# Altium schematic symbol library MMT_Capacitors.SchLib: 58 symbols
Pins are listed as number, name and electrical type; pins without a type are passive.

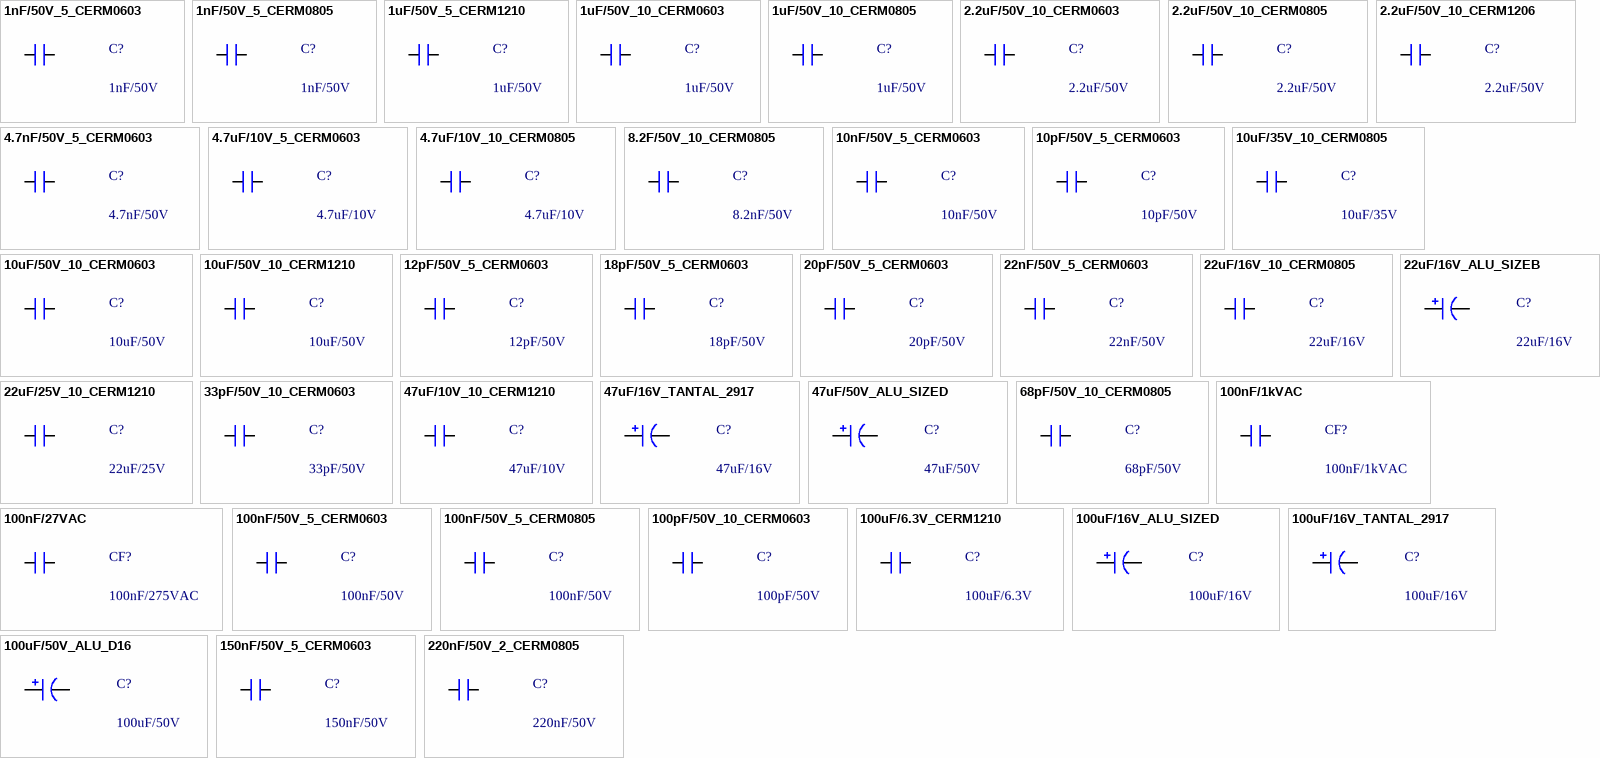
[diagram p0: symbols 1nF/50V_5_CERM0603 to 220nF/50V_2_CERM0805]

## 1nF/50V_5_CERM0603
designator C?, comment 1nF/50V
Multilayer Ceramic Capacitors MLCC - SMD/SMT 10000pF 50V 5% 0603 Case Size; Part Number: C0603C102J5GACTU; Manufacturer: KEMET; VN Price: 400; Value: 1nF; Ex Price: 0.1; VN Supplier: https://thegioiic.com/products/tu-1nf-50v-0603; Tolerance: 5%; Voltage/Wattage: 50V; Package: 0603 (1608 metric); Ex Supplier: https://www.mouser.vn/ProductDetail/Murata-Electronics/GRM1885C1H102JA01D?qs=sGAEpiMZZMs0AnBnWHyRQCld5UqfCmT595b3DkpttL4%3D
footprint CAP-SM-0603 (SMD Ceramic Capacitor Size 0603)
pins: 1, 2

## 1nF/50V_5_CERM0805
designator C?, comment 1nF/50V
Multilayer Ceramic Capacitors MLCC - SMD/SMT 1000pF 50V 5% 0805 Case Size; Part Number: CC0805KRX7R9BB102; Manufacturer: Yageo; VN Price: 400; Value: 1nF; Ex Price: 0.1; VN Supplier: https://thegioiic.com/products/tu-1nf-50v-0805; Tolerance: 5%; Voltage/Wattage: 50V; Package: 0805; Ex Supplier: https://www.mouser.vn/ProductDetail/Yageo/CC0805KRX7R9BB102?qs=sGAEpiMZZMs0AnBnWHyRQMMzfhmH8IQXwV%2Fe07AIlLM%3D
footprint CAP-SM-0805
pins: 1, 2

## 1uF/50V_5_CERM1210
designator C?, comment 1uF/50V
Multilayer Ceramic Capacitors MLCC - SMD/SMT 1.0uF 50V X7R 10%; Part Number: CC1210KKX7R9BB105; Manufacturer: Yageo; VN Price: 1800; Value: 1uF; Tolerance: 5%; Ex Price: 0.53; VN Supplier: https://thegioiic.com/products/tu-1uf-50v-1210; Voltage/Wattage: 50V; Package: 1210 (3225 metric); Ex Supplier: https://www.mouser.vn/ProductDetail/Yageo/CC1210KKX7R9BB105?qs=sGAEpiMZZMs0AnBnWHyRQC78fOh4A%252BtzvyOBwrzCDCY%3D
footprint CAP-SM-1210
pins: 1, 2

## 1uF/50V_10_CERM0603
designator C?, comment 1uF/50V
Multilayer Ceramic Capacitors MLCC - SMD/SMT 0603 50VDC 1.0uF X5R 10%; Part Number: GRT188R61H105KE13D; Manufacturer: MURATA; VN Price: 480; Value: 1uF; Voltage/Wattage: 50V; Ex Price: 0.39; VN Supplier: https://thegioiic.com/products/tu-1uf-50v-0603; Tolerance: 10%; Package: 0603 (1608 metric); Ex Supplier: https://www.mouser.vn/ProductDetail/Murata-Electronics/GRT188R61H105KE13D?qs=sGAEpiMZZMs0AnBnWHyRQKtaB%2FEehnE2kAeCmkZsgrxqpRVtQGDSUQ%3D%3D
footprint CAP-SM-0603 (SMD Ceramic Capacitor Size 0603)
pins: 1, 2

## 1uF/50V_10_CERM0805
designator C?, comment 1uF/50V
Multilayer Ceramic Capacitors MLCC - SMD/SMT 1.0uF 50V X7R 10%; Part Number: CC0805KKX7R9BB105; Manufacturer: Yageo; VN Price: 550; Value: 1uF; Ex Price: 0.26; VN Supplier: https://thegioiic.com/products/tu-1uf-50v-0805; Tolerance: 10%; Voltage/Wattage: 50V; Package: 0805 (2012 metric); Ex Supplier: https://www.mouser.vn/ProductDetail/Yageo/CC0805KKX7R9BB105?qs=sGAEpiMZZMs0AnBnWHyRQCF1lTWZ1EBL970yMIRMHL4%3D
footprint CAP-SM-0805
pins: 1, 2

## 2.2uF/50V_10_CERM0603
designator C?, comment 2.2uF/50V
Multilayer Ceramic Capacitors MLCC - SMD/SMT 0603 2.2uF 50volts X5R 10%; Part Number: GRM188R61H225KE11D; Manufacturer: MURATA; VN Price: 500; Voltage/Wattage: 50V; Ex Price: 0.3; VN Supplier: https://thegioiic.com/products/tu-2-2uf-50v-0603; Value: 2.2uF; Tolerance: 10%; Package: 0603 (1608mm); Ex Supplier: https://www.mouser.vn/ProductDetail/Murata-Electronics/GRM188R61H225KE11D?qs=sGAEpiMZZMs0AnBnWHyRQKFZIQ7b73cd5p1cvIMBXrTOTAbV%2F8mfyA%3D%3D
footprint CAP-SM-0603 (SMD Ceramic Capacitor Size 0603)
pins: 1, 2

## 2.2uF/50V_10_CERM0805
designator C?, comment 2.2uF/50V
Multilayer Ceramic Capacitors MLCC - SMMultilayer Ceramic Capacitors MLCC - SMD/SMT 0805 50Vdc 2.2uF X5R 10%D/SMT 2.2uF 16V X7R 10%; Part Number: GRT21BR61H225KE13L; Manufacturer: MURATA; VN Price: 650; Voltage/Wattage: 50V; Ex Price: 0.68; VN Supplier: https://thegioiic.com/products/tu-2-2uf-50v-0805; Value: 2.2uF; Tolerance: 10%; Package: 0805 (2012mm); Ex Supplier: https://www.mouser.vn/ProductDetail/Murata-Electronics/GRT21BR61H225KE13L?qs=sGAEpiMZZMs0AnBnWHyRQKtaB%2FEehnE2Hb6UM4I9%2FAZHltCDS1eY3g%3D%3D
footprint CAP-SM-0805
pins: 1, 2

## 2.2uF/50V_10_CERM1206
designator C?, comment 2.2uF/50V
Multilayer Ceramic Capacitors MLCC - SMD/SMT 1206 50VDC 2.2uF 10% X5R; Part Number: UMK316BJ225KD-T; Manufacturer: Taiyo Yuden; VN Price: 950; Voltage/Wattage: 50V; Ex Price: 0.27; VN Supplier: https://www.thegioiic.com/products/tu-gom-1206-2-2uf-50v; Value: 2.2uF; Tolerance: 10%; Package: 1206 (3216mm); Ex Supplier: https://www.mouser.vn/ProductDetail/Taiyo-Yuden/UMK316BJ225KD-T?qs=PzICbMaShUdwqFD%252BaJc7gQ%3D%3D
footprint CAP-SM-1206
pins: 1, 2

## 4.7nF/50V_5_CERM0603
designator C?, comment 4.7nF/50V
Multilayer Ceramic Capacitors MLCC - SMD/SMT 0603 4,700pF 50volts C0G +/-5%; Part Number: GRM1885C1H472JA01D; Manufacturer: MURATA; VN Price: 400; Value: 4.7nF; Tolerance: 5%; Voltage/Wattage: 50V; Ex Price: 0.18; VN Supplier: https://thegioiic.com/products/tu-4-7nf-50v-0603; Package: 0603 (1608 metric); Ex Supplier: https://www.mouser.vn/ProductDetail/Murata-Electronics/GRM1885C1H472JA01D?qs=sGAEpiMZZMs0AnBnWHyRQP81ohtk65EYHyC0Pl33sf4%3D
footprint CAP-SM-0603 (SMD Ceramic Capacitor Size 0603)
pins: 1, 2

## 4.7uF/10V_5_CERM0603
designator C?, comment 4.7uF/10V
Multilayer Ceramic Capacitors MLCC - SMD/SMT 4.7uF 10V 5% 0603 Case Size; Part Number: CC0603KRX5R6BB475; Manufacturer: YAGEO; VN Price: 390; Ex Price: 0.23; VN Supplier: https://thegioiic.com/products/tu-4-7uf-25v-0603; Value: 4.7uF; Tolerance: 5%; Voltage/Wattage: 10V; Package: 0603 (1608 metric); Ex Supplier: https://www.mouser.vn/ProductDetail/Yageo/CC0603KRX5R6BB475?qs=sGAEpiMZZMs0AnBnWHyRQIOKs%2FDjbJvGh3u1MiHEXPk%3D
footprint CAP-SM-0603 (SMD Ceramic Capacitor Size 0603)
pins: 1, 2

## 4.7uF/10V_10_CERM0805
designator C?, comment 4.7uF/10V
Multilayer Ceramic Capacitors MLCC - SMD/SMT 4.7uF 50V 10% 0805 Case Size; Part Number: UMK212BBJ475KG-T; Manufacturer: Taiyo Yuden; VN Price: 680; Ex Price: 0.4; VN Supplier: https://www.thegioiic.com/products/tu-gom-0805-4-7uf-50v-080; Value: 4.7uF; Tolerance: 10%; Voltage/Wattage: 50V; Package: 0805 (2012 metric); Ex Supplier: https://www.mouser.vn/ProductDetail/Taiyo-Yuden/UMK212BBJ475KG-T?qs=sGAEpiMZZMs0AnBnWHyRQMvIYFJ8iykVfm85kUN4r4%252BZoMKVB%252BvJJw%3D%3D
footprint CAP-SM-0805
pins: 1, 2

## 8.2F/50V_10_CERM0805
designator C?, comment 8.2nF/50V
Multilayer Ceramic Capacitors MLCC - SMD/SMT 8.2nF 50V X7R 10%; Part Number: CC0805KRX7R9BB822; Manufacturer: Yageo; VN Price: 200; Ex Price: 0.1; VN Supplier: https://thegioiic.com/products/tu-8-2nf-50v-0805; Value: 8.2nF; Tolerance: 10%; Voltage/Wattage: 50V; Package: 0805; Ex Supplier: https://www.mouser.vn/ProductDetail/Yageo/CC0805KRX7R9BB822?qs=sGAEpiMZZMs0AnBnWHyRQBrZzKFAgm5imwqmSenSVDM%3D
footprint CAP-SM-0805
pins: 1, 2

## 10nF/50V_5_CERM0603
designator C?, comment 10nF/50V
Multilayer Ceramic Capacitors MLCC - SMD/SMT 10000pF 50V 5% 0603 Case Size; Part Number: AC0603KRX7R9BB103; Manufacturer: YAGEO; VN Price: 390; Value: 10nF; Ex Price: 0.55; VN Supplier: https://thegioiic.com/products/tu-10nf-50v-0603; Tolerance: 5%; Voltage/Wattage: 50V; Package: 0603 (1608 metric); Ex Supplier: https://www.mouser.vn/ProductDetail/Yageo/CC0603JRNPO9BN103?qs=sGAEpiMZZMs0AnBnWHyRQB9G40cLJQs4lLpOhPaeoz0uDH4daLgq6g%3D%3D
footprint CAP-SM-0603 (SMD Ceramic Capacitor Size 0603)
pins: 1, 2

## 10pF/50V_5_CERM0603
designator C?, comment 10pF/50V
Multilayer Ceramic Capacitors MLCC - SMD/SMT 10PF 50V 5% 0603; Part Number: CC0603JRNPO9BN100; Manufacturer: YAGEO; VN Price: 300; Ex Price: 0.019; VN Supplier: https://thegioiic.com/products/tu-10pf-50v-0603; Value: 10pF; Tolerance: 5%; Voltage/Wattage: 50V; Package: 0603 (1608 metric); Ex Supplier: https://www.mouser.vn/ProductDetail/Yageo/CC0603JRNPO9BN100?qs=sGAEpiMZZMs0AnBnWHyRQDvo%2FxRt9F0%2FCvOcw123GhM%3D
footprint CAP-SM-0603 (SMD Ceramic Capacitor Size 0603)
pins: 1, 2

## 10uF/35V_10_CERM0805
designator C?, comment 10uF/35V
Multilayer Ceramic Capacitors MLCC - SMD/SMT 0805 35V 10uF 20% X5R; Part Number: GMK212BBJ106MG-T; Manufacturer: Taiyo Yuden; VN Price: 700; Tolerance: 10%; Ex Price: 0.41; VN Supplier: https://thegioiic.com/products/tu-10uf-50v-0805; Value: 10uF; Voltage/Wattage: 35V; Package: 0805 (2012mm); Ex Supplier: https://www.mouser.vn/ProductDetail/Taiyo-Yuden/GMK212BBJ106MG-T?qs=sGAEpiMZZMs0AnBnWHyRQPSjYu%2Fkbgu8brtb2ADij9%252BamBg2FF1%252BBg%3D%3D
footprint CAP-SM-0805
pins: 1, 2

## 10uF/50V_10_CERM0603
designator C?, comment 10uF/50V
Multilayer Ceramic Capacitors MLCC - SMD/SMT 0603 10uF 16volts X5R 10%; Part Number: GRM188R61C106KAALD; Manufacturer: MURATA; VN Price: 800; Voltage/Wattage: 50V; Ex Price: 0.39; VN Supplier: https://thegioiic.com/products/tu-10uf-50v-0603; Value: 10uF; Tolerance: 10%; Package: 0603 (1608 metric); Ex Supplier: https://www.mouser.vn/ProductDetail/Murata-Electronics/GRM188R61C106KAALD?qs=sGAEpiMZZMs0AnBnWHyRQFv7x1xn%252BYFd%252BJ0EQ7j1EQ9OXr7B3%252Bi7zg%3D%3D
footprint CAP-SM-0603 (SMD Ceramic Capacitor Size 0603)
pins: 1, 2

## 10uF/50V_10_CERM1210
designator C?, comment 10uF/50V
Multilayer Ceramic Capacitors MLCC - SMD/SMT 10uF 50V X7R 10%; Part Number: UMK325C7106KM-T; Manufacturer: Taiyo Yuden; VN Price: 3800; Ex Price: 0.52; VN Supplier: https://thegioiic.com/products/tu-10uf-50v-1210; Value: 10uF; Tolerance: 10%; Voltage/Wattage: 50V; Package: 1210 (3225 metric); Ex Supplier: https://www.mouser.vn/ProductDetail/Taiyo-Yuden/UMK325C7106KM-T?qs=sGAEpiMZZMs0AnBnWHyRQAEIN6r3SS%2FOEszBCl7U3CY%3D
footprint CAP-SM-1210
pins: 1, 2

## 12pF/50V_5_CERM0603
designator C?, comment 12pF/50V
Multilayer Ceramic Capacitors MLCC - SMD/SMT 12pF 50V NPO 5%; Part Number: CC0603JRNPO9BN120; Manufacturer: YAGEO; VN Price: 300; Ex Price: 0.019; VN Supplier: https://thegioiic.com/products/tu-12pf-50v-0603; Value: 12pF; Tolerance: 5%; Voltage/Wattage: 50V; Package: 0603 (1608 metric); Ex Supplier: https://www.mouser.vn/ProductDetail/Yageo/CC0603JRNPO9BN120?qs=sGAEpiMZZMs0AnBnWHyRQEgrhrwQqGBNyYoYSJCgX%2Fg%3D
footprint CAP-SM-0603 (SMD Ceramic Capacitor Size 0603)
pins: 1, 2

## 18pF/50V_5_CERM0603
designator C?, comment 18pF/50V
Multilayer Ceramic Capacitors MLCC - SMD/SMT 18pF 50V NPO 5%; Part Number: CC0603JRNPO9BN180; Manufacturer: YAGEO; VN Price: 300; Ex Price: 0.019; VN Supplier: https://thegioiic.com/products/tu-18pf-50v-0603; Value: 18pF; Tolerance: 5%; Voltage/Wattage: 50V; Package: 0603 (1608 metric); Ex Supplier: https://www.mouser.vn/ProductDetail/Yageo/CC0603JRNPO9BN180?qs=sGAEpiMZZMs0AnBnWHyRQDvo%2FxRt9F0%2F0P0Zhd2TT40%3D
footprint CAP-SM-0603 (SMD Ceramic Capacitor Size 0603)
pins: 1, 2

## 20pF/50V_5_CERM0603
designator C?, comment 20pF/50V
Multilayer Ceramic Capacitors MLCC - SMD/SMT 20PF 50V 5% 0603; Part Number: CC0603JRNPO9BN200; Manufacturer: YAGEO; VN Price: 300; Ex Price: 0.1; VN Supplier: https://thegioiic.com/products/tu-20pf-50v-0603; Value: 20pF; Tolerance: 5%; Voltage/Wattage: 50V; Package: 0603 (1608 metric); Ex Supplier: https://www.mouser.vn/ProductDetail/Yageo/CC0603JRNPO9BN200?qs=sGAEpiMZZMs0AnBnWHyRQIOKs%2FDjbJvG%2FINmtqidEMg%3D
footprint CAP-SM-0603 (SMD Ceramic Capacitor Size 0603)
pins: 1, 2

## 22nF/50V_5_CERM0603
designator C?, comment 22nF/50V
Multilayer Ceramic Capacitors MLCC - SMD/SMT 22nF 50V X7R 10%; Part Number: CC0603JRX7R9BB223; Manufacturer: YAGEO; VN Price: 400; Tolerance: 5%; Ex Price: 0.11; VN Supplier: https://thegioiic.com/products/tu-22nf-50v-0603; Value: 22nF; Voltage/Wattage: 50V; Package: 0603 (1608 metric); Ex Supplier: https://www.mouser.vn/ProductDetail/Yageo/CC0603JRX7R9BB223?qs=AgBp2OyFlx9sJjKfvioq1g%3D%3D
footprint CAP-SM-0603 (SMD Ceramic Capacitor Size 0603)
pins: 1, 2

## 22uF/16V_10_CERM0805
designator C?, comment 22uF/16V
Multilayer Ceramic Capacitors MLCC - SMD/SMT 16V 22uF X5R 0805 10%; Part Number: GRM21BR61C226ME44L; Manufacturer: Murata Electronics; VN Price: 1700; Tolerance: 20%; Ex Price: 0.52; VN Supplier: https://www.thegioiic.com/products/tu-gom-0805-22uf-16v; Value: 22uF; Voltage/Wattage: 16V; Package: 0805 (2012 metric); Ex Supplier: https://www.mouser.vn/ProductDetail/Murata-Electronics/GRM21BR61C226ME44L?qs=sGAEpiMZZMs0AnBnWHyRQCUMvL3P2ZlC9j5CecA6GdU%3D
footprint CAP-SM-0805
pins: 1, 2

## 22uF/16V_ALU_SIZEB
designator C?, comment 22uF/16V
Aluminum Electrolytic Capacitors - SMD 22uF 16V; Part Number: EEE-HAC220WAR; Manufacturer: PANASONIC; VN Price: 1500; Tolerance: 20%; Ex Price: 0.3; VN Supplier: http://tme.vn/Product.aspx?id=1251#page=pro_info; Value: 22uF; Voltage/Wattage: 16V; Package: sizeB_4*5.4; Ex Supplier: https://www.mouser.vn/ProductDetail/Panasonic/EEE-HAC220WAR?qs=sGAEpiMZZMtZ1n0r9vR22YCGMi9egYVUkjj8DO9FRLc%3D
footprint CAP_ALU_SIZEB (Capacitor, Aluminium Electrolytric, 4.3mm L X 4.3mm W X 5.4mm H, IPC Medium Density)
pins: 1, 2

## 22uF/25V_10_CERM1210
designator C?, comment 22uF/25V
Multilayer Ceramic Capacitors MLCC - SMD/SMT 25V 22uF X5R 1210 10%; Part Number: TMK325BJ226KM-P; Manufacturer: Taiyo Yuden; VN Price: 3000; Ex Price: 0.65; VN Supplier: https://thegioiic.com/products/tu-22uf-25v-1210; Value: 22uF; Tolerance: 10%; Voltage/Wattage: 25V; Package: 1210 (3225 metric); Ex Supplier: https://www.mouser.vn/ProductDetail/Taiyo-Yuden/TMK325BJ226KM-P?qs=sGAEpiMZZMs0AnBnWHyRQGbGAG%252BjSxabhN8ySVWLEr48O%2F5CgC7BjA%3D%3D
footprint CAP-SM-1210
pins: 1, 2

## 33pF/50V_10_CERM0603
designator C?, comment 33pF/50V
Multilayer Ceramic Capacitors MLCC - SMD/SMT 33pF 50V NPO 10%; Part Number: CC0603KRNPO9BN330; Manufacturer: YAGEO; VN Price: 300; Ex Price: 0.019; VN Supplier: https://thegioiic.com/products/tu-33pf-50v-0603; Value: 33pF; Tolerance: 10%; Voltage/Wattage: 50V; Package: 0603 (1608 metric); Ex Supplier: https://www.mouser.vn/ProductDetail/Yageo/CC0603KRNPO9BN330?qs=sGAEpiMZZMs0AnBnWHyRQCF1lTWZ1EBLEZIXXTyRzKA%3D
footprint CAP-SM-0603 (SMD Ceramic Capacitor Size 0603)
pins: 1, 2

## 47uF/10V_10_CERM1210
designator C?, comment 47uF/10V
Multilayer Ceramic Capacitors MLCC - SMD/SMT 10V 47uF X7R 1210 10%; Part Number: GRM32ER61E226KE15L; Manufacturer: MURATA; VN Price: 3700; Ex Price: 1.76; VN Supplier: https://thegioiic.com/products/tu-47uf-25v-1210; Value: 47uF; Tolerance: 10%; Voltage/Wattage: 10V; Package: 1210; Ex Supplier: https://www.mouser.vn/ProductDetail/Murata-Electronics/GRM32ER71A476ME15L?qs=sGAEpiMZZMs0AnBnWHyRQAqZuYDIKiCDWJXIEsVy%252B4M%3D
footprint CAP-SM-1210
pins: 1, 2

## 47uF/16V_TANTAL_2917
designator C?, comment 47uF/16V
Tantalum Capacitors - Solid SMD 16V 47uF 20% 2312 ESR= 500 mOhm; Part Number: TAJC476M016RNJ; Manufacturer: AVX; VN Price: 5000; Ex Price: 0.88; VN Supplier: http://tme.vn/Product.aspx?id=304; Value: 47uF; Tolerance: 20%; Voltage/Wattage: 16V; Package: 2312 (6032); Ex Supplier: https://www.mouser.vn/ProductDetail/AVX/TAJC476M016RNJ?qs=%2Fha2pyFadugacUpF%252Bc0Njycqgz5ztrdvXxhiUeUff%252Bguqzf7CNalSw%3D%3D
footprint CAP_2312_SIZEC
pins: 1, 2

## 47uF/50V_ALU_SIZED
designator C?, comment 47uF/50V
ALU_POL_47uF/50V; Part Number: EEE-FK1H470XP; Manufacturer: PANASONIC; VN Price: 800; Value: 47uF; Tolerance: 20%; Voltage/Wattage: 50V; Ex Price: 0.53; VN Supplier: https://thegioiic.com/products/tu-nhom-smd-47uf-50v-d6l8; Package: Size D8 (6.3 x 7.7 mm); Ex Supplier: https://www.mouser.vn/ProductDetail/Panasonic/EEE-FK1C221XP?qs=sGAEpiMZZMtZ1n0r9vR22cS6GEbW2fto8%2FTYuE7NUC4%3D
footprint CAP ALU SIZE D (Capacitor, Aluminium Electrolytric, 6.6mm L X 6.6mm W X 5.4mm H, IPC Medium Density)
pins: 1, 2

## 68pF/50V_10_CERM0805
designator C?, comment 68pF/50V
Multilayer Ceramic Capacitors MLCC - SMD/SMT 68pF 50V NPO 5%; Part Number: CC0805JRNPO9BN680; Manufacturer: Yageo; VN Price: 400; Ex Price: 0.13; VN Supplier: http://www.tme.vn/Product.aspx?id=2116; Value: 68pF; Tolerance: 5%; Voltage/Wattage: 50V; Package: 0805 (2012 metric); Ex Supplier: https://www.mouser.vn/ProductDetail/Yageo/CC0805JRNPO9BN680?qs=sGAEpiMZZMs0AnBnWHyRQDvo%2FxRt9F0%2FGwtcjwmnLaU%3D
footprint CAP-SM-0805
pins: 1, 2

## 100nF/1kVAC
designator CF?
VN Price: 3000; Value: 100nF; Tolerance: 20%; Voltage/Wattage: 1kVAC; VN Supplier: https://icdayroi.com/tu-cao-ap-100nf1000v-104pf-1kv
footprint CAP 472 (Tu gom)
pins: 1, 2

## 100nF/27VAC
designator CF?, comment 100nF/275VAC
Safety Film Capacitors 275VAC 0.1uF 20% L/S=15.0mm AEC-Q200; Part Number: ECQ-UAAF104S1; Manufacturer: Panasonic; VN Price: 1200; Value: 100nF; Ex Price: 0.55; VN Supplier: https://icdayroi.com/tu-vang-104j-0-1uf-275v-15mm; Tolerance: 20%; Voltage/Wattage: 275 VAC; Ex Supplier: https://www.mouser.vn/ProductDetail/Panasonic/ECQ-UAAF104S1?qs=sGAEpiMZZMukHu%252BjC5l7YWlY0o8ZNcWKGaNUFmS4sn4%3D
footprint ECQ-UAAF104S1
pins: 1, 2

## 100nF/50V_5_CERM0603
designator C?, comment 100nF/50V
Multilayer Ceramic Capacitors MLCC - SMD/SMT 50volts 0.1uF 10% X7R AUTO; Part Number: C0603C104K5RACAUTO7411; Manufacturer: KEMET; VN Price: 390; Value: 100nF; Tolerance: 5%; Voltage/Wattage: 50V; Ex Price: 0.08; VN Supplier: https://thegioiic.com/products/tu-100nf-0-1uf-50v-0603; Package: 0603 (1608 metric); Ex Supplier: https://www.mouser.vn/ProductDetail/KEMET/C0603C104K5RACAUTO7411?qs=sGAEpiMZZMs0AnBnWHyRQIdQ%252BF5WfI5y5HLLdLcwbIU%3D
footprint CAP-SM-0603 (SMD Ceramic Capacitor Size 0603)
pins: 1, 2

## 100nF/50V_5_CERM0805
designator C?, comment 100nF/50V
Multilayer Ceramic Capacitors MLCC - SMD/SMT 50volts 0.1uF 10% X7R AUTO; Part Number: CC0805KRX7R9BB104; Manufacturer: Yageo; VN Price: 490; Value: 100nF; Tolerance: 5%; Voltage/Wattage: 50V; Ex Price: 0.08; VN Supplier: https://thegioiic.com/products/tu-100nf-0-1uf-50v-0805; Package: 0805; Ex Supplier: https://www.mouser.vn/ProductDetail/Yageo/CC0805KRX7R9BB104?qs=sGAEpiMZZMs0AnBnWHyRQDvo%2FxRt9F0%2F0OCnDEa5a3A%3D
footprint CAP-SM-0805
pins: 1, 2

## 100pF/50V_10_CERM0603
designator C?, comment 100pF/50V
Multilayer Ceramic Capacitors MLCC - SMD/SMT 50volts 100pF 10% X7R AUTO; Part Number: GCM0335C1H101FA16D; Manufacturer: MuRata; VN Price: 390; Voltage/Wattage: 50V; Ex Price: 0.1; VN Supplier: https://thegioiic.com/products/tu-100pf-50v-0603; Value: 100pF; Tolerance: 10%; Package: 0603 (1608 metric); Ex Supplier: https://www.mouser.vn/ProductDetail/Murata-Electronics/GCM0335C1H101FA16D?qs=sGAEpiMZZMs0AnBnWHyRQN7%2FAA2D2lPPWOYDmfDqDaNGJ0%252BEkT6Sjg%3D%3D
footprint CAP-SM-0603 (SMD Ceramic Capacitor Size 0603)
pins: 1, 2

## 100uF/6.3V_CERM1210
designator C?, comment 100uF/6.3V
Multilayer Ceramic Capacitors MLCC - SMD/SMT 1210 100uF 6.3volts *Derate Voltage/Temp; Part Number: GRM32EC70J107ME15L; Manufacturer: Murata Electronics; VN Price: 2500; Tolerance: 20%; Voltage/Wattage: 6.3V; Ex Price: 0.75; VN Supplier: https://thegioiic.com/products/tu-100uf-6-3v-1210; Value: 100uF; Package: 1210 (3225 metric); Ex Supplier: https://www.mouser.vn/ProductDetail/Murata-Electronics/GRM32EC70J107ME15L?qs=sGAEpiMZZMsh%252B1woXyUXj1kJ%252BHahlopSNwvFOLLdFpY%3D
footprint CAP-SM-1210
pins: 1, 2

## 100uF/16V_ALU_SIZED
designator C?, comment 100uF/16V
CAP ALUM 100UF 16V 20% SMD; Part Number: 107AXZ016MQ5; Manufacturer: Cornell Dubilier - CDE; VN Price: 700; Ex Price: 0.4; VN Supplier: https://thegioiic.com/products/tu-nhom-smd-100uf-16v-d6-3l5-4; Value: 100uF; Tolerance: 20%; Voltage/Wattage: 16V; Package: sizeD_6.3*5.4; Ex Supplier: https://www.mouser.vn/ProductDetail/Cornell-Dubilier-CDE/107AXZ016MQ5?qs=BLH6sjKQk%252BlZdyAZILYR%2Fg%3D%3D
footprint CAP_ALU_SIZEF_8*10.5
pins: 1, 2

## 100uF/16V_TANTAL_2917
designator C?, comment 100uF/16V
Tantalum Capacitors - Solid SMD 16volts 100uF 20%; Part Number: TAJD107M016RNJ; Manufacturer: AVX; VN Price: 6100; Voltage/Wattage: 16V; Ex Price: 0.83; VN Supplier: https://thegioiic.com/products/tu-tantalum-100uf-16v-2917-tajd107k016rnj; Value: 100uF; Tolerance: 20%; Package: 2917 (7343) D case; Ex Supplier: https://www.mouser.vn/ProductDetail/AVX/TAJD107M016RNJ?qs=sGAEpiMZZMtZ1n0r9vR22f0Jgorj1M1unWSsA1SNG3E%3D
footprint C2917_D CASE
pins: 1, 2

## 100uF/50V_ALU_D16
designator C?, comment 100uF/50V
Aluminum Electrolytic Capacitors - Radial Leaded 100uF 50V; Part Number: ECA-1HM101B; Manufacturer: PANASONIC; VN Price: 900; Tolerance: 20%; Ex Price: 0.32; VN Supplier: http://tme.vn/Product.aspx?id=1945#page=pro_info; Value: 100uF; Voltage/Wattage: 50V; Package: D8; Ex Supplier: https://www.mouser.vn/ProductDetail/Panasonic/ECA-1HM101B?qs=sGAEpiMZZMsh%252B1woXyUXjyCq6MUA4phe0FuMWnhIvHI%3D
footprint CAP_POL_D8L11.5
pins: 1, 2

## 150nF/50V_5_CERM0603
designator C?, comment 150nF/50V
Multilayer Ceramic Capacitors MLCC - SMD/SMT 50volts 0.15uF 10% X7R AUTO; Part Number: CC0603KRX7R9BB154; Manufacturer: Yageo; VN Price: 240; Value: 150nF; Tolerance: 5%; Voltage/Wattage: 50V; Ex Price: 0.17; VN Supplier: https://www.thegioiic.com/products/tu-150nf-50v-0603; Package: 0603 (1608 metric); Ex Supplier: https://www.mouser.vn/ProductDetail/Yageo/CC0603KRX7R9BB154?qs=sGAEpiMZZMs0AnBnWHyRQB9G40cLJQs4Xfbpz0Zz4FvZtaaLZsIaAQ%3D%3D
footprint CAP-SM-0603 (SMD Ceramic Capacitor Size 0603)
pins: 1, 2

## 220nF/50V_2_CERM0805
designator C?, comment 220nF/50V
Multilayer Ceramic Capacitors MLCC - SMMultilayer Ceramic Capacitors MLCC - SMD/SMT 0805 50Vdc 220nF X5R 10%D/SMT; Part Number: CC0805MKX7R9BB224; Manufacturer: Yageo; VN Price: 650; Tolerance: 2%; Voltage/Wattage: 50V; Ex Price: 0.2; VN Supplier: https://thegioiic.com/products/tu-220nf-50v-0805; Value: 220nF; Package: 0805 (2012mm); Ex Supplier: https://www.mouser.vn/ProductDetail/Yageo/CC0805MKX7R9BB224?qs=sGAEpiMZZMs0AnBnWHyRQAqZuYDIKiCDT4g9sRPmVzv%2FLYDqreDiRA%3D%3D
footprint CAP-SM-0805
pins: 1, 2

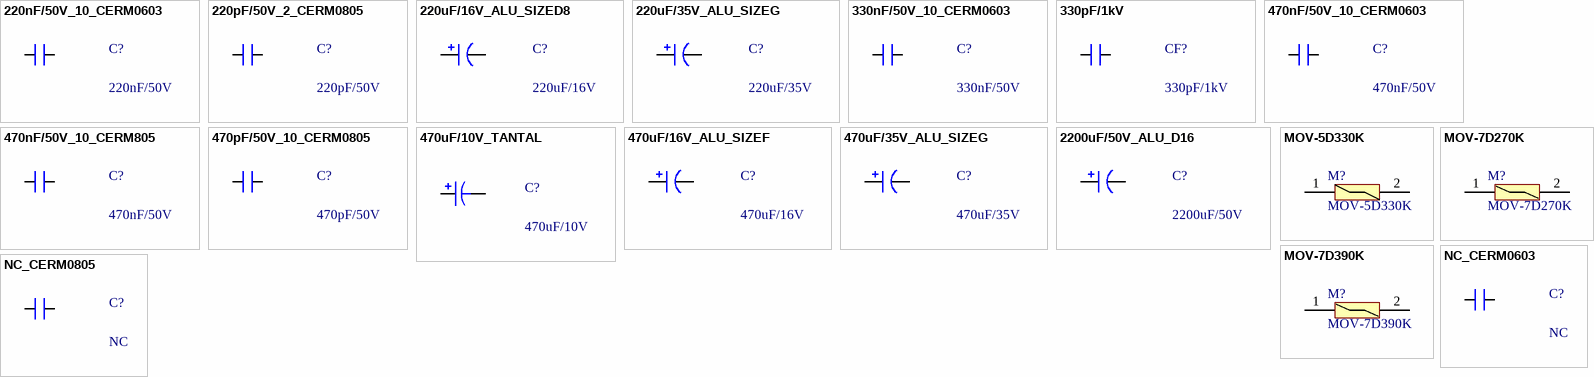
[diagram p1: symbols 220nF/50V_10_CERM0603 to NC_CERM0805]

## 220nF/50V_10_CERM0603
designator C?, comment 220nF/50V
Multilayer Ceramic Capacitors MLCC - SMMultilayer Ceramic Capacitors MLCC - SMD/SMT 0603 50VDC 220nF X5R 10%D/SMT; Part Number: C1608X5R1H224K080AB; Manufacturer: TDK; VN Price: 240; Tolerance: 10%; Voltage/Wattage: 50V; Ex Price: 0.17; VN Supplier: https://www.thegioiic.com/products/tu-220nf-50v-0603; Value: 220nF; Package: 0603 (1608 mm); Ex Supplier: https://www.mouser.vn/ProductDetail/TDK/C1608X5R1H224K080AB?qs=sGAEpiMZZMs0AnBnWHyRQEWjzA2rN6H9dzV8XObJBiE%3D
footprint CAP-SM-0603 (SMD Ceramic Capacitor Size 0603)
pins: 1, 2

## 220pF/50V_2_CERM0805
designator C?, comment 220pF/50V
Multilayer Ceramic Capacitors MLCC - SMMultilayer Ceramic Capacitors MLCC - SMD/SMT 0805 50Vdc 220pF X5R 10%D/SMT 220pF 16V X7R 10%; Part Number: GRM2165C1H221GA01D; Manufacturer: MURATA; VN Price: 650; Tolerance: 2%; Voltage/Wattage: 50V; Ex Price: 0.25; VN Supplier: https://thegioiic.com/products/tu-220pf-50v-0805; Value: 220pF; Package: 0805 (2012mm); Ex Supplier: https://www.mouser.vn/ProductDetail/Murata-Electronics/GRM2165C1H221GA01D?qs=sGAEpiMZZMs0AnBnWHyRQEDVruPrK2Bif45VJ5EQCsc%3D
footprint CAP-SM-0805
pins: 1, 2

## 220uF/16V_ALU_SIZED8
designator C?, comment 220uF/16V
ALU_POL_220uF/16V; Part Number: EEE-FK1C221XP; Manufacturer: PANASONIC; VN Price: 3000; Value: 220uF; Tolerance: 20%; Voltage/Wattage: 16V; Ex Price: 0.4; VN Supplier: http://www.tme.vn/Product.aspx?id=971#page=pro_info; Package: Size D8 (6.3 x 7.7 mm); Ex Supplier: https://www.mouser.vn/ProductDetail/Panasonic/EEE-FK1C221XP?qs=sGAEpiMZZMtZ1n0r9vR22cS6GEbW2fto8%2FTYuE7NUC4%3D
footprint CAP_ALU_SIZED8
pins: 1, 2

## 220uF/35V_ALU_SIZEG
designator C?, comment 220uF/35V
Aluminum Electrolytic Capacitors - SMD 220uF 35V; Part Number: EEE-FK1V221P; Manufacturer: PANASONIC; VN Price: 3200; Tolerance: 20%; Ex Price: 0.64; VN Supplier: http://tme.vn/Product.aspx?id=2117; Value: 220uF; Voltage/Wattage: 35V; Package: sizeG_10.2*10mm; Ex Supplier: https://www.mouser.vn/ProductDetail/Panasonic/EEE-FK1V221P?qs=sGAEpiMZZMtZ1n0r9vR22cS6GEbW2fto%252B9LzJhk0LlI%3D
footprint CAP_ALU_SIZEF_8*10.5
pins: 1, 2

## 330nF/50V_10_CERM0603
designator C?, comment 330nF/50V
Multilayer Ceramic Capacitors MLCC - SMD/SMT WCAP-CSGP 0.33uF 0603 10% 25V MLCC; Part Number: 885012206074; Manufacturer: Wurth Elektronik; VN Price: 400; Value: 330nF; Ex Price: 0.1; VN Supplier: https://thegioiic.com/products/tu-330nf-50v-0603; Tolerance: 10%; Voltage/Wattage: 25V; Package: 0603 (1608 metric); Ex Supplier: https://www.mouser.vn/ProductDetail/Wurth-Elektronik/885012206074?qs=sGAEpiMZZMs0AnBnWHyRQEGbLOF2VP1inE3KU8bAY7Uzcaiq22H4ZQ%3D%3D
footprint CAP-SM-0603 (SMD Ceramic Capacitor Size 0603)
pins: 1, 2

## 330pF/1kV
designator CF?
Ceramic Disc Capacitors .25LS 330PF 1KV 10%; Part Number: S331K25X5FN63L6R; Manufacturer: Vishay / BC Components; Voltage/Wattage: 1kVAC; Ex Price: 0.36; Value: 330pF; Tolerance: 10%; Ex Supplier: https://www.mouser.vn/ProductDetail/Vishay-BC-Components/S331K25X5FN63L6R?qs=sGAEpiMZZMsh%252B1woXyUXj7ZRiWsHAh0%252BHMR3%252BgeFx2Q%3D
footprint CAP_330P_1KV
pins: 1, 2

## 470nF/50V_10_CERM0603
designator C?, comment 470nF/50V
Multilayer Ceramic Capacitors MLCC - SMD/SMT 470nF 50V X7R 10%; Part Number: UMK107B7474KA-TR; Manufacturer: Taiyo Yuden; VN Price: 400; Ex Price: 0.087; VN Supplier: https://thegioiic.com/products/tu-470nf-50v-0603; Value: 470nF; Tolerance: 10%; Voltage/Wattage: 50V; Package: 0603 (1608mm); Ex Supplier: https://www.mouser.vn/ProductDetail/Taiyo-Yuden/UMK107B7474KA-TR?qs=sGAEpiMZZMs0AnBnWHyRQAEIN6r3SS%2FOYQ6Hf79SuKM%3D
footprint CAP-SM-0603 (SMD Ceramic Capacitor Size 0603)
pins: 1, 2

## 470nF/50V_10_CERM805
designator C?, comment 470nF/50V
Multilayer Ceramic Capacitors MLCC - SMD/SMT 470nF 50V X7R 10%; Part Number: CC1206KKX7R9BB474; Manufacturer: YAGEO; VN Price: 420; Ex Price: 0.094; VN Supplier: https://thegioiic.com/products/tu-470nf-50v-0805; Value: 470nF; Tolerance: 10%; Voltage/Wattage: 50V; Package: 0805 (2012mm); Ex Supplier: https://www.mouser.vn/ProductDetail/Yageo/CC1206KKX7R9BB474?qs=sGAEpiMZZMs0AnBnWHyRQIT6wiZ4l3J%252B1fuay%2F1%2FHrE%3D
footprint CAP-SM-0805
pins: 1, 2

## 470pF/50V_10_CERM0805
designator C?, comment 470pF/50V
Multilayer Ceramic Capacitors MLCC - SMMultilayer Ceramic Capacitors MLCC - SMD/SMT 0805 50Vdc 470pF X5R 10%D/SMT 470pF 16V X7R 10%; Part Number: GCM21BR71H474KA55L; Manufacturer: MURATA; VN Price: 650; Voltage/Wattage: 50V; Ex Price: 0.39; VN Supplier: https://thegioiic.com/products/tu-470pf-50v-0805; Value: 470pF; Tolerance: 10%; Package: 0805 (2012mm); Ex Supplier: https://www.mouser.vn/ProductDetail/Murata-Electronics/GCM21BR71H474KA55L?qs=sGAEpiMZZMs0AnBnWHyRQFQYdTDrJniYr5F5BBtWn%252B8%3D
footprint CAP-SM-0805
pins: 1, 2

## 470uF/10V_TANTAL
designator C?, comment 470uF/10V
Tantalum Capacitors - Solid SMD 10V 470uF 10% 2917 ESR= 100 mOhms; Part Number: TPSE477K010R0100; Manufacturer: AVX; VN Price: 8500; Ex Price: 1.94; VN Supplier: https://thegioiic.com/products/tu-tantalum-470uf-10v-2917-taje477k010rnj; Value: 470uF; Tolerance: 10%; Voltage/Wattage: 10V; Package: 2917; Ex Supplier: https://www.mouser.vn/ProductDetail/AVX/TPSE477K010R0100?qs=sGAEpiMZZMtZ1n0r9vR22WBN%252BThccN0vWWE0vgOaCcw%3D
footprint C2917_D CASE
pins: 1, 2

## 470uF/16V_ALU_SIZEF
designator C?, comment 470uF/16V
Aluminum Electrolytic Capacitors - SMD 470uF 16V; Part Number: EEE-FK1C471P; Manufacturer: PANASONIC; VN Price: 3500; Tolerance: 20%; Ex Price: 0.64; VN Supplier: http://www.tme.vn/Product.aspx?id=972#page=pro_info; Value: 470uF; Voltage/Wattage: 16V; Package: sizeF_8*10.5; Ex Supplier: https://www.mouser.vn/ProductDetail/Panasonic/EEE-FK1C471P?qs=sGAEpiMZZMsh%252B1woXyUXj4fRh5Y6flgG%2FKc8M2dmsI0%3D
footprint CAP_ALU_SIZEF_8*10.5
pins: 1, 2

## 470uF/35V_ALU_SIZEG
designator C?, comment 470uF/35V
Aluminum Electrolytic Capacitors - SMD 35volts 470uF SMD AEC-Q200 Reflow Only; Part Number: EEE-FK1V471SP; Manufacturer: PANASONIC; VN Price: 4500; Tolerance: 20%; Voltage/Wattage: 35V; Ex Price: 0.95; VN Supplier: http://www.tme.vn/Product.aspx?id=2118#page=pro_info; Value: 470uF; Package: sizeG_10.2*10mm; Ex Supplier: https://www.mouser.vn/ProductDetail/Panasonic/EEE-FK1V471SP?qs=zOMD8z%2Fhl68xqw9uR0oqiw%3D%3D
footprint CAP_ALU_SIZEG
pins: 1, 2

## 2200uF/50V_ALU_D16
designator C?, comment 2200uF/50V
Aluminum Electrolytic Capacitors - Radial Leaded 2200uF 50V; Part Number: ECA-1HHG222; Manufacturer: PANASONIC; VN Price: 8000; Tolerance: 20%; Ex Price: 1.06; VN Supplier: http://tme.vn/Product.aspx?id=1468#page=pro_info; Value: 2200uF; Voltage/Wattage: 50V; Package: D16; Ex Supplier: https://www.mouser.vn/ProductDetail/Panasonic/ECA-1HHG222?qs=sGAEpiMZZMsh%252B1woXyUXj71reSmpzZQtTOEVdXe26Do%3D
footprint CAP_POL_D16L31.5
pins: 1, 2

## MOV-5D330K
designator M?
Varistors 33volts 5mm; Voltage/Wattage: 33V; VN Price: 1000; Part Number: MOV-5D330K; VN Supplier: https://thegioiic.com/products/tu-chong-set-varistor-5d330k-33v
footprint MOV-5D
pins: 1, 2

## MOV-7D270K
designator M?
Varistors 27volts 7mm; Manufacturer: KOA Speer; Part Number: NVD07UCD027; Voltage/Wattage: 27V; Ex Price: 0.25; Ex Supplier: https://www.mouser.vn/ProductDetail/KOA-Speer/NVD07UCD027?qs=sGAEpiMZZMuQmL5N8IqpX60p22ayIdHXxPuHKGCp54g=
footprint MOV-7D
pins: 1, 2

## MOV-7D390K
designator M?
Varistors 39volts 7mm; Manufacturer: KOA Speer; Part Number: NVD07UCD039; Voltage/Wattage: 39V; Ex Price: 0.25; Ex Supplier: https://www.mouser.vn/ProductDetail/KOA-Speer/NVD07UCD039?qs=%2Fha2pyFaduinui%252BNqVRaDxjQR1%2FgQZI4KQmhs3kLmwP9l367RIqelg%3D%3D
footprint MOV-7D
pins: 1, 2

## NC_CERM0603
designator C?, comment NC
Multilayer Ceramic Capacitors MLCC - SMD/SMT 5% 0603 Case Size; VN Supplier: NC; VN Price: NC; Value: NC; Tolerance: NC; Voltage/Wattage: NC; Package: 0603 (1608 metric); Part Number: NC; Manufacturer: NC; Ex Supplier: NC; Ex Price: NC
footprint CAP-SM-0603 (SMD Ceramic Capacitor Size 0603)
pins: 1, 2

## NC_CERM0805
designator C?, comment NC
Multilayer Ceramic Capacitors MLCC - SMD/SMT 5% 0805 Case Size; VN Supplier: NC; VN Price: NC; Value: NC; Tolerance: NC; Voltage/Wattage: NC; Package: 0805 (2012mm); Part Number: NC; Manufacturer: NC; Ex Supplier: NC; Ex Price: NC
footprint CAP-SM-0805
pins: 1, 2